# EAGLE library part CSD18540Q5B (library CSD18540Q5B)
MOSFET 60V, N-channel NexFET Pwr MOSFET Source: Datasheet <https://www.ti.com/lit/ds/symlink/csd18540q5b.pdf?ts=1669951210192&ref_url=https%3A%2F%2Fcomponentsearchengine.com%2F>
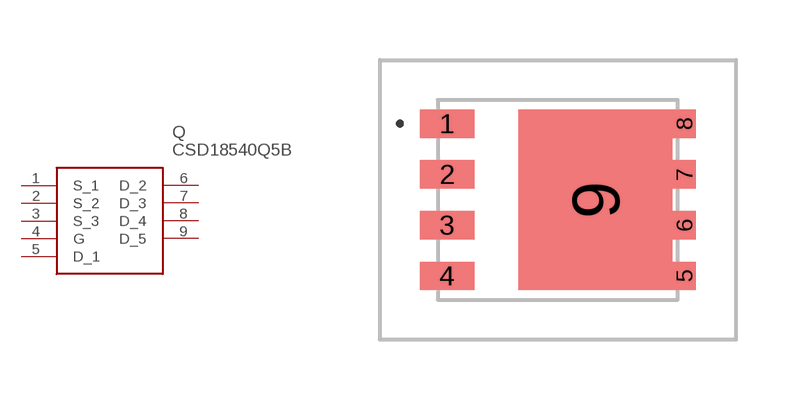
[diagram p0: symbol with the pads of CSD18540Q5B; footprint CSD18540Q5B]

Designator prefix Q

## CSD18540Q5B (Description: MOSFET 60V, N-channel NexFET Pwr MOSFET; Height: 1.05mm; Manufacturer_Name: Texas Instruments; Manufacturer_Part_Number: CSD18540Q5B)  [CSD18540Q5B]
1  S_1
2  S_2
3  S_3
4  G
5  D_1
6  D_2
7  D_3
8  D_4
9  D_5

## Footprint CSD18540Q5B (pad centres in mm)
CSD18540Q5B-2
smd 1.372 x 0.71: 1 -2.77,1.905; 2 -2.77,0.635; 3 -2.77,-0.635; 4 -2.77,-1.905
smd 0.59 x 0.71: 5 3.161,-1.905; 6 3.161,-0.635; 7 3.161,0.635; 8 3.161,1.905
smd 3.85 x 4.52: 9 0.941,0